# Altium footprint library 2020-05-10_07-08-38.PcbLib: 1 footprints
Each footprint in its own frame and in the unit in brackets; x right, y up, seen from the top. Pads: shape width x height; smd on the part's side, far side on the other; paste and mask are expansions set on the pad; w line width, h text height; cw(c..) or ccw(c..) is an arc to the next point about the centre after c.
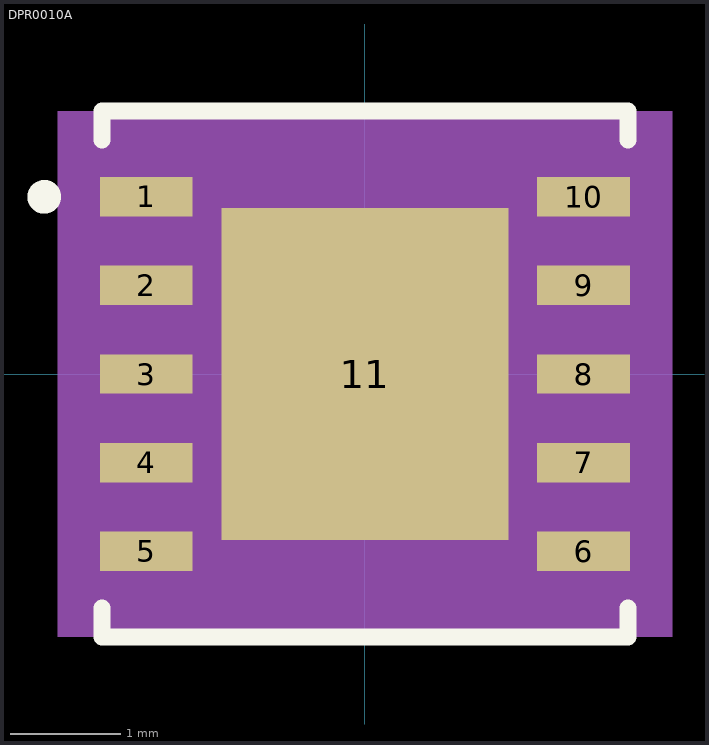
[diagram p0: the footprint, top view; thin cyan lines are the x and y axes]

## DPR0010A [mil]
height 1377.95
pads (11):
  rect 33x14 smd paste-7 mask+3: 1(-77.76,62.99) 2(-77.76,31.5) 3(-77.76,0) 4(-77.76,-31.5) 5(-77.76,-62.99) 6(77.76,-62.99) 7(77.76,-31.5) 8(77.76,0) 9(77.76,31.5) 10(77.76,62.99)
  rect 102x118 smd paste-58.5 mask+0: 11(0,0)
Top Layer:
  region: 0,59
  region: 0,-59
Top Overlay:
  circle w6: c-114,62.99 r3
  lines w6: -93.5,-83.09 -93.5,-93.5 93.5,-93.5 93.5,-83.09 ; -93.5,83.09 -93.5,93.5 93.5,93.5 93.5,83.09
Top Paste:
  drawing of 26 lines, arcs and shapes, not listed
Top Solder:
  region: -61.26,69.99 -94.26,69.99 -94.26,55.99 -61.26,55.99
  region: -61.26,38.5 -94.26,38.5 -94.26,24.5 -61.26,24.5
  region: -61.26,7 -94.26,7 -94.26,-7 -61.26,-7
  region: -61.26,-24.5 -94.26,-24.5 -94.26,-38.5 -61.26,-38.5
  region: -61.26,-55.99 -94.26,-55.99 -94.26,-69.99 -61.26,-69.99
  region: 94.26,-55.99 61.26,-55.99 61.26,-69.99 94.26,-69.99
  region: 94.26,-24.5 61.26,-24.5 61.26,-38.5 94.26,-38.5
  region: 94.26,7 61.26,7 61.26,-7 94.26,-7
  region: 94.26,38.5 61.26,38.5 61.26,24.5 94.26,24.5
  region: 94.26,69.99 61.26,69.99 61.26,55.99 94.26,55.99
  region: -53.5,38.87 -53.5,61.5 53.5,61.5 53.5,38.87
  region: -53.5,7.87 -53.5,23.13 53.5,23.13 53.5,7.87
  region: -53.5,-23.13 -53.5,-7.87 53.5,-7.87 53.5,-23.13
  region: -53.5,-61.5 -53.5,-38.87 53.5,-38.87 53.5,-61.5
  region: -53.5,-61.5 -53.5,61.5 -38.87,61.5 -38.87,-61.5
  region: -7.87,-61.5 -7.87,61.5 -23.13,61.5 -23.13,-61.5
  region: 23.13,-61.5 23.13,61.5 7.87,61.5 7.87,-61.5
  region: 38.87,-61.5 38.87,61.5 53.5,61.5 53.5,-61.5
  region: 0,59
  region: 0,-59
Mechanical 5:
  region: 109.26,-93.5 -109.26,-93.5 -109.26,93.5 109.26,93.5
Mechanical 13:
  circle w0: c-61.26,62.99 r3
  lines w0: -12,78.5 ccw(c0,78.5) 12,78.5
  lines w1: -78.5,-78.5 78.5,-78.5 78.5,78.5 -78.5,78.5 -78.5,-78.5
Mechanical 15:
  region: -88.5,-80.74 -104.26,-80.74 -104.26,80.74 -88.5,80.74 -88.5,88.5 88.5,88.5 88.5,80.74 104.26,80.74 104.26,-80.74 88.5,-80.74 88.5,-88.5 -88.5,-88.5
  lines w6: -104.26,-80.74 -104.26,80.74 -88.5,80.74 -88.5,88.5 88.5,88.5 88.5,80.74 104.26,80.74 104.26,-80.74 88.5,-80.74 88.5,-88.5 -88.5,-88.5 -88.5,-80.74 -104.26,-80.74
Mechanical 16:
  circle w0: c-29.54,-29.54 r6
  circle w0: c-29.54,29.54 r6
  circle w0: c0,0 r6
  circle w0: c29.54,-29.54 r6
  circle w0: c29.54,29.54 r6
3D body "DPR0010A.stp": height 31.5, standoff 0, extent -78.73,-78.73 78.75,78.75